# Altium integrated library Panasonic_Sensors.IntLib: 2 symbols
Pins are listed as number, name and electrical type; pins without a type are passive.

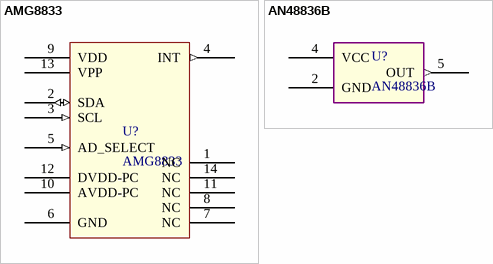
[diagram p0: symbols AMG8833 to AN48836B]

## AMG8833
designator U?
High Precision Infrared Array Sensor based on Advanced MEMS Technology; ComponentLink1Description: Datasheet1; ComponentLink1URL: https://industrial.panasonic.com/cdbs/www-data/pdf/ADI8000/ADI8000C59.pdf; ComponentLink2Description: Datasheet2; ComponentLink2URL: https://cdn-learn.adafruit.com/assets/assets/000/043/261/original/Grid-EYE_SPECIFICATIONS%28Reference%29.pdf?1498680225
footprint PANASONIC_AMG8833 (IPC-7351C)
pins: 1 NC "Leave terminal unconnected", 2 SDA (io) "I2C data line", 3 SCL (in) "I2C clock line", 4 INT (out) "Interrupt flag", 5 AD_SELECT (in) "Sensor address setting", 6 GND (power) "Ground", 7 NC "Leave terminal unconnected", 8 NC "Leave terminal unconnected", 9 VDD (power) "DC3.3V or DC5V", 10 AVDD-PC "Capacitor connected", 11 NC "Leave terminal unconnected", 12 DVDD-PC "Capacitor connected", 13 VPP (power) "VDD connection", 14 NC "Leave terminal unconnected"

## AN48836B
designator U?
1.8 V Supply voltage, Low current consumption, high sensitivity  CMOS Hall IC Operates in both magnetic field directions; Supplier 1: Mouser; Supplier Part Number 1: 667-AN48836B-NL; ComponentLink1Description: Datasheet; ComponentLink1URL: http://www.mouser.com/ds/2/315/AN48836B_E-933985.pdf
footprint ICSOFL5P65_200X210X70L35X21N (IPC-7351C)
pins: 1 NC hidden "Not Connected", 2 GND (power) "Ground pin", 3 NC hidden "Not Connected", 4 VCC (power) "Voltage supply pin", 5 OUT (out) "Output pin"